# EAGLE library part L293DD (library Common-Parts-Library-Eagle)
L293DD Series Push - Pull Quad Channel Driver with Diodes - SOIC-20
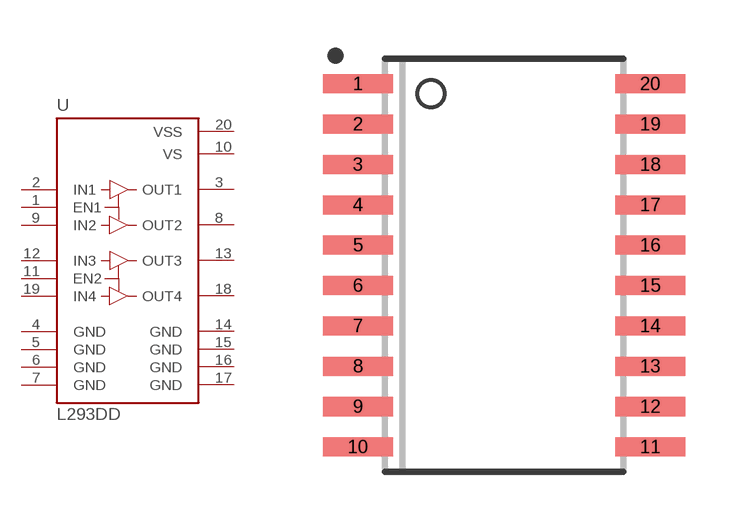
[diagram p41: symbol with the pads of SOIC127P1033X265-20N; footprint SOIC127P1033X265-20N]

Designator prefix U

## L293DD (MANUFACTURER: STMicroelectronics)  [SOIC127P1033X265-20N]
1  EN1  in
2  IN1  in
3  OUT1  out
4  GND  pas
5  GND  pas
6  GND  pas
7  GND  pas
8  OUT2  out
9  IN2  in
10  VS  pwr
11  EN2  in
12  IN3  in
13  OUT3  out
14  GND  pas
15  GND  pas
16  GND  pas
17  GND  pas
18  OUT4  out
19  IN4  in
20  VSS  pwr

## Footprint SOIC127P1033X265-20N (pad centres in mm)
smd 2.2 x 0.6: 1 -4.6,5.715; 2 -4.6,4.445; 3 -4.6,3.175; 4 -4.6,1.905; 5 -4.6,0.635; 6 -4.6,-0.635; 7 -4.6,-1.905; 8 -4.6,-3.175; 9 -4.6,-4.445; 10 -4.6,-5.715; 11 4.6,-5.715; 12 4.6,-4.445; 13 4.6,-3.175; 14 4.6,-1.905; 15 4.6,-0.635; 16 4.6,0.635; 17 4.6,1.905; 18 4.6,3.175; 19 4.6,4.445; 20 4.6,5.715